# EAGLE library part TLC080 (library op-amp)
BiMOS OP-AMP Single Supply, External Shutdown
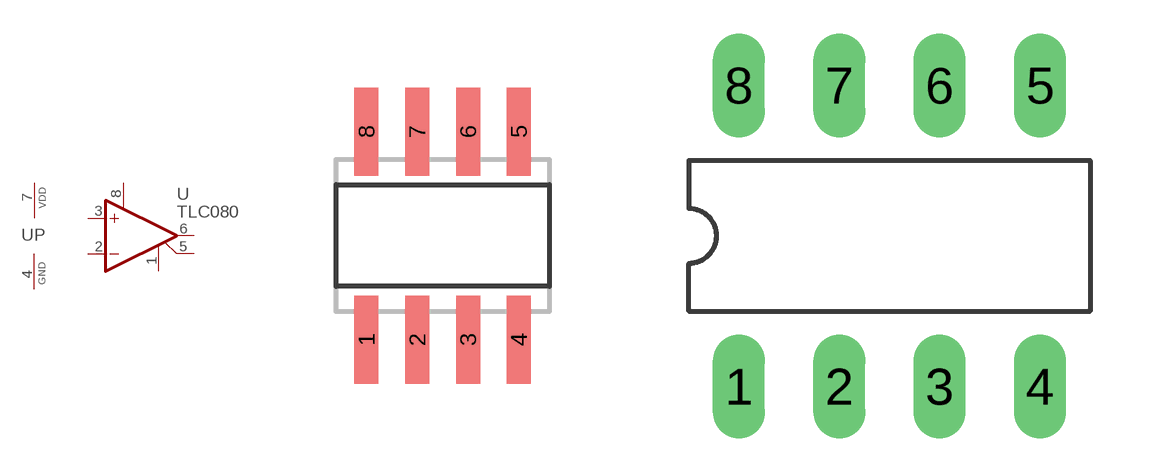
[diagram p5: symbol with the pads of SO08; footprints SO08, DIL08]

Designator prefix U; gates A=OPAMP_PV P=PWR_VDDGND -NULL=_OFFNULL2 -SHDN=_SHDN

## TLC080D (P1I: o)  [SO08]
1  -NULL:NULL1  pas
2  A:-IN  in
3  A:+IN  in
4  P:GND  pwr
5  -NULL:NULL2  pas
6  A:OUT  out
7  P:VDD  pwr
8  -SHDN:SHDN  pas

## TLC080P (P1I: o)  [DIL08]
Pads as for SO08

## Footprint SO08 (pad centres in mm)
SMALL OUTLINE INTEGRATED CIRCUIT body 3.9 mm/JEDEC MS-012AA
smd 0.6 x 2.2: 1 -1.905,-2.6; 2 -0.635,-2.6; 3 0.635,-2.6; 4 1.905,-2.6; 5 1.905,2.6; 6 0.635,2.6; 7 -0.635,2.6; 8 -1.905,2.6

## Footprint DIL08 (pad centres in mm)
Dual In Line Package
drill 0.813 long: 1 -3.81,-3.81; 2 -1.27,-3.81; 3 1.27,-3.81; 4 3.81,-3.81; 5 3.81,3.81; 6 1.27,3.81; 7 -1.27,3.81; 8 -3.81,3.81